# Altium footprint library DRV8242SQRHLRQ1.PcbLib: 3 footprints
Each footprint in its own frame and in the unit in brackets; x right, y up, seen from the top. Pads: shape width x height; smd on the part's side, far side on the other; paste and mask are expansions set on the pad; w line width, h text height; cw(c..) or ccw(c..) is an arc to the next point about the centre after c.
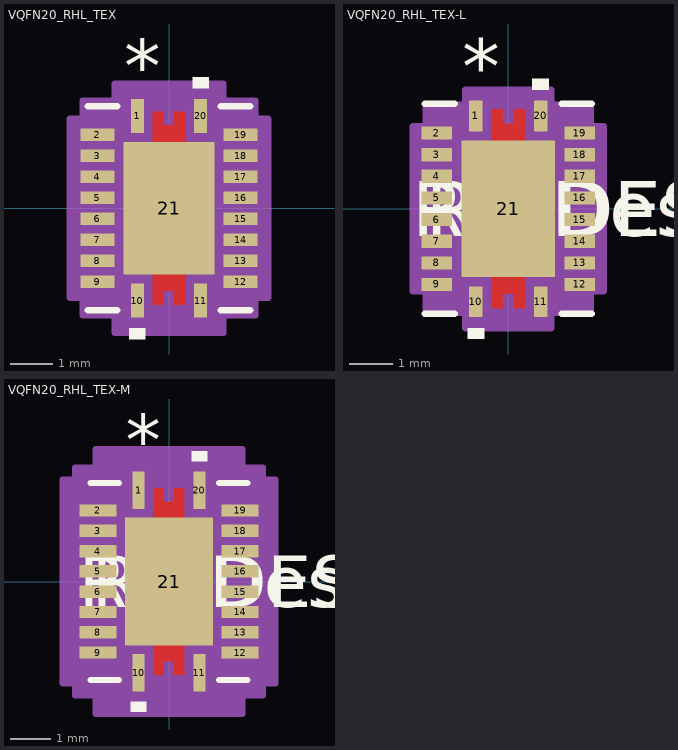
[diagram p0: the footprints below, top view; thin cyan lines are the x and y axes]

## VQFN20_RHL_TEX [mil]
pads (21):
  rect 12x32 smd paste+0 mask+0: 1(-29.53,86.5) 10(-29.53,-86.5) 11(29.53,-86.5) 20(29.53,86.5)
  rect 32x12 smd paste+0 mask+0: 2(-67,68.9) 3(-67,49.21) 4(-67,29.53) 5(-67,9.84) 6(-67,-9.84) 7(-67,-29.53) 8(-67,-49.21) 9(-67,-68.9) 12(67,-68.9) 13(67,-49.21) 14(67,-29.53) 15(67,-9.84) 16(67,9.84) 17(67,29.53) 18(67,49.21) 19(67,68.9)
  rect 85x124 smd paste-61.5 mask+0: 21(0,0)
Top Layer:
  region: -15,-62 15,-62 15,-90.5 5,-90.5 5,-77.5 -5,-77.5 -5,-90.5 -15,-90.5
  region: -15,62 15,62 15,90.5 5,90.5 5,77.5 -5,77.5 -5,90.5 -15,90.5
Top Overlay:
  region: 37.03,112.5 22.03,112.5 22.03,122.5 37.03,122.5
  region: -22.03,-112.5 -37.03,-112.5 -37.03,-122.5 -22.03,-122.5
  lines w6: -76,-95.5 -48.63,-95.5 ; -76,95.5 -48.63,95.5 ; 48.63,-95.5 76,-95.5 ; 48.63,95.5 76,95.5
  text "*" at -42.03,108.5 h50
Top Paste:
  region: -15,-62 -5,-62 -5,-90.5 -15,-90.5
  region: 5,-62 15,-62 15,-90.5 5,-90.5
  region: -15,62 -5,62 -5,90.5 -15,90.5
  region: 5,62 15,62 15,90.5 5,90.5
  region: 38.56,-3.94 -38.56,-3.94 -38.56,-58.06 38.56,-58.06
  region: 38.56,58.06 -38.56,58.06 -38.56,3.94 38.56,3.94
Top Solder:
  region: -15,-62 15,-62 15,-90.5 5,-90.5 5,-77.5 -5,-77.5 -5,-90.5 -15,-90.5
  region: -15,62 15,62 15,90.5 5,90.5 5,77.5 -5,77.5 -5,90.5 -15,90.5
Mechanical 13:
  lines w1: -71,40.5 -21,90.5 ; -71,-90.5 -71,90.5 71,90.5 71,-90.5 -71,-90.5
  text "*" at -42.03,45.5 h50
Mechanical 15:
  region: -81,-83.9 -93,-83.9 -93,83.9 -81,83.9 -81,100.5 -51.03,100.5 -51.03,116.5 51.03,116.5 51.03,100.5 81,100.5 81,83.9 93,83.9 93,-83.9 81,-83.9 81,-100.5 51.03,-100.5 51.03,-116.5 -51.03,-116.5 -51.03,-100.5 -81,-100.5
  lines w6: -93,-83.9 -81,-83.9 -81,-100.5 -51.03,-100.5 -51.03,-116.5 51.03,-116.5 51.03,-100.5 81,-100.5 81,-83.9 93,-83.9 93,83.9 81,83.9 81,100.5 51.03,100.5 51.03,116.5 -51.03,116.5 -51.03,100.5 -81,100.5 -81,83.9 -93,83.9 -93,-83.9

## VQFN20_RHL_TEX-L [mil]
pads (21):
  rect 12x28 smd paste+0 mask+0: 1(-29.53,84.5) 10(-29.53,-84.5) 11(29.53,-84.5) 20(29.53,84.5)
  rect 28x12 smd paste+0 mask+0: 2(-65,68.9) 3(-65,49.21) 4(-65,29.53) 5(-65,9.84) 6(-65,-9.84) 7(-65,-29.53) 8(-65,-49.21) 9(-65,-68.9) 12(65,-68.9) 13(65,-49.21) 14(65,-29.53) 15(65,-9.84) 16(65,9.84) 17(65,29.53) 18(65,49.21) 19(65,68.9)
  rect 85x124 smd paste-61.5 mask+0: 21(0,0)
Top Layer:
  region: -15,62 15,62 15,90.5 5,90.5 5,77.5 -5,77.5 -5,90.5 -15,90.5
  region: -15,-62 15,-62 15,-90.5 5,-90.5 5,-77.5 -5,-77.5 -5,-90.5 -15,-90.5
Top Overlay:
  region: -22.03,-108.5 -37.03,-108.5 -37.03,-118.5 -22.03,-118.5
  region: 37.03,108.5 22.03,108.5 22.03,118.5 37.03,118.5
  lines w6: -76,-95.5 -48.63,-95.5 ; -76,95.5 -48.63,95.5 ; 48.63,-95.5 76,-95.5 ; 48.63,95.5 76,95.5
  text "*" at -42.03,104.5 h50
  text "RefDes" at -75,-25 h50
  text "REFDES" at -87.5,-25 h50
Top Paste:
  region: 38.56,58.06 -38.56,58.06 -38.56,3.94 38.56,3.94
  region: 38.56,-3.94 -38.56,-3.94 -38.56,-58.06 38.56,-58.06
  region: 5,62 15,62 15,90.5 5,90.5
  region: -15,62 -5,62 -5,90.5 -15,90.5
  region: 5,-62 15,-62 15,-90.5 5,-90.5
  region: -15,-62 -5,-62 -5,-90.5 -15,-90.5
Top Solder:
  region: -15,62 15,62 15,90.5 5,90.5 5,77.5 -5,77.5 -5,90.5 -15,90.5
  region: -15,-62 15,-62 15,-90.5 5,-90.5 5,-77.5 -5,-77.5 -5,-90.5 -15,-90.5
Mechanical 13:
  lines w1: -71,40.5 -21,90.5 ; -71,-90.5 71,-90.5 71,90.5 -71,90.5 -71,-90.5
  text "*" at -42.03,45.5 h50
  text "RefDes2" at -87.5,-25 h50
Mechanical 15:
  region: -75,-74.9 -87,-74.9 -87,74.9 -75,74.9 -75,94.5 -39.03,94.5 -39.03,108.5 39.03,108.5 39.03,94.5 75,94.5 75,74.9 87,74.9 87,-74.9 75,-74.9 75,-94.5 39.03,-94.5 39.03,-108.5 -39.03,-108.5 -39.03,-94.5 -75,-94.5
  lines w6: -87,-74.9 -87,74.9 -75,74.9 -75,94.5 -39.03,94.5 -39.03,108.5 39.03,108.5 39.03,94.5 75,94.5 75,74.9 87,74.9 87,-74.9 75,-74.9 75,-94.5 39.03,-94.5 39.03,-108.5 -39.03,-108.5 -39.03,-94.5 -75,-94.5 -75,-74.9 -87,-74.9

## VQFN20_RHL_TEX-M [mil]
pads (21):
  rect 12x36 smd paste+0 mask+0: 1(-29.53,88.5) 10(-29.53,-88.5) 11(29.53,-88.5) 20(29.53,88.5)
  rect 36x12 smd paste+0 mask+0: 2(-69,68.9) 3(-69,49.21) 4(-69,29.53) 5(-69,9.84) 6(-69,-9.84) 7(-69,-29.53) 8(-69,-49.21) 9(-69,-68.9) 12(69,-68.9) 13(69,-49.21) 14(69,-29.53) 15(69,-9.84) 16(69,9.84) 17(69,29.53) 18(69,49.21) 19(69,68.9)
  rect 85x124 smd paste-61.5 mask+0: 21(0,0)
Top Layer:
  region: -15,62 15,62 15,90.5 5,90.5 5,77.5 -5,77.5 -5,90.5 -15,90.5
  region: -15,-62 15,-62 15,-90.5 5,-90.5 5,-77.5 -5,-77.5 -5,-90.5 -15,-90.5
Top Overlay:
  region: -22.03,-116.5 -37.03,-116.5 -37.03,-126.5 -22.03,-126.5
  region: 37.03,116.5 22.03,116.5 22.03,126.5 37.03,126.5
  lines w6: -76,-95.5 -48.63,-95.5 ; -76,95.5 -48.63,95.5 ; 48.63,-95.5 76,-95.5 ; 48.63,95.5 76,95.5
  text "*" at -42.03,112.5 h50
  text "RefDes" at -75,-25 h50
  text "REFDES" at -87.5,-25 h50
Top Paste:
  region: 38.56,58.06 -38.56,58.06 -38.56,3.94 38.56,3.94
  region: 38.56,-3.94 -38.56,-3.94 -38.56,-58.06 38.56,-58.06
  region: 5,62 15,62 15,90.5 5,90.5
  region: -15,62 -5,62 -5,90.5 -15,90.5
  region: 5,-62 15,-62 15,-90.5 5,-90.5
  region: -15,-62 -5,-62 -5,-90.5 -15,-90.5
Top Solder:
  region: -15,62 15,62 15,90.5 5,90.5 5,77.5 -5,77.5 -5,90.5 -15,90.5
  region: -15,-62 15,-62 15,-90.5 5,-90.5 5,-77.5 -5,-77.5 -5,-90.5 -15,-90.5
Mechanical 13:
  lines w1: -71,40.5 -21,90.5 ; -71,-90.5 71,-90.5 71,90.5 -71,90.5 -71,-90.5
  text "*" at -42.03,45.5 h50
  text "RefDes2" at -87.5,-25 h50
Mechanical 15:
  region: -91,-98.9 -103,-98.9 -103,98.9 -91,98.9 -91,110.5 -71.03,110.5 -71.03,128.5 71.03,128.5 71.03,110.5 91,110.5 91,98.9 103,98.9 103,-98.9 91,-98.9 91,-110.5 71.03,-110.5 71.03,-128.5 -71.03,-128.5 -71.03,-110.5 -91,-110.5
  lines w6: -103,-98.9 -103,98.9 -91,98.9 -91,110.5 -71.03,110.5 -71.03,128.5 71.03,128.5 71.03,110.5 91,110.5 91,98.9 103,98.9 103,-98.9 91,-98.9 91,-110.5 71.03,-110.5 71.03,-128.5 -71.03,-128.5 -71.03,-110.5 -91,-110.5 -91,-98.9 -103,-98.9